# Altium schematic symbol library Input.SchLib: 17 symbols
Pins are listed as number, name and electrical type; pins without a type are passive.

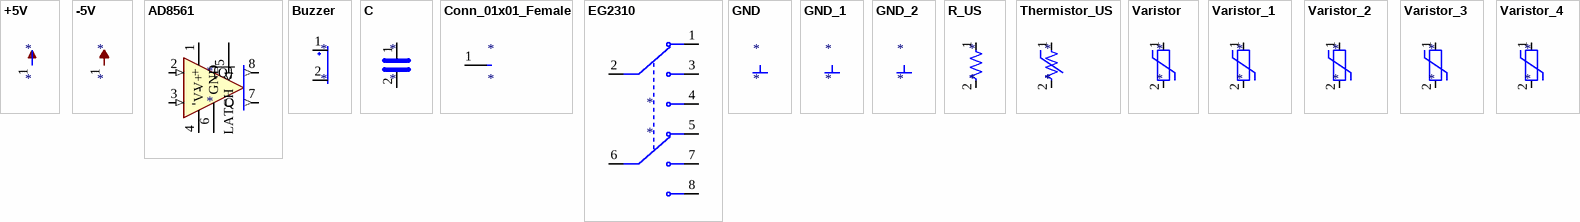
[diagram p0: symbols +5V to Varistor_4]

## +5V
designator *
pins: 1 +5V (power)

## -5V
designator *
pins: 1 -5V (power)

## AD8561
designator *
pins: 1 V+ (power), 2 + (in), 3 - (in), 4 V- (power), 5 LATCH (in), 6 GND (power), 7 Q (out), 8 ~{{Q}} (out)

## Buzzer
designator *
pins: 1 -, 2 +

## C
designator *
pins: 1, 2

## Conn_01x01_Female
designator *
pins: 1 Pin_1

## EG2310
designator *
pins: 1, 2, 3, 4, 5, 6, 7, 8

## GND
designator *
pins: 1 GND (power) hidden

## GND_1
designator *
pins: 1 GND (power) hidden

## GND_2
designator *
pins: 1 GND (power) hidden

## R_US
designator *
pins: 1, 2

## Thermistor_US
designator *
pins: 1, 2

## Varistor
designator *
pins: 1, 2

## Varistor_1
designator *
pins: 1, 2

## Varistor_2
designator *
pins: 1, 2

## Varistor_3
designator *
pins: 1, 2

## Varistor_4
designator *
pins: 1, 2